# Altium footprint library Connectors.PcbLib: 2 footprints
Each footprint in its own frame and in the unit in brackets; x right, y up, seen from the top. Pads: shape width x height; smd on the part's side, far side on the other; paste and mask are expansions set on the pad; w line width, h text height; cw(c..) or ccw(c..) is an arc to the next point about the centre after c.
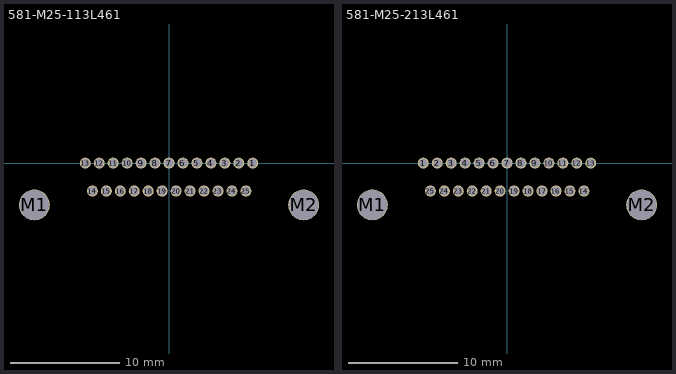
[diagram p0: the footprints below, top view; thin cyan lines are the x and y axes]

## 581-M25-113L461 [mm] "CONN MICRO-D MALE 25P RA"
pads (27):
  round 1 hole 0.8: 1(7.62,0) 2(6.35,0) 3(5.08,0) 4(3.81,0) 5(2.54,0) 6(1.27,0) 7(0,0) 8(-1.27,0) 9(-2.54,0) 10(-3.81,0) 11(-5.08,0) 12(-6.35,0) 13(-7.62,0) 14(-6.973,-2.54) 15(-5.703,-2.54) 16(-4.433,-2.54) 17(-3.163,-2.54) 18(-1.893,-2.54) 19(-0.623,-2.54) 20(0.647,-2.54) 21(1.917,-2.54) 22(3.187,-2.54) 23(4.457,-2.54) 24(5.727,-2.54) 25(6.997,-2.54)
  round 2.8 hole 2.69: M1(-12.25,-3.81) M2(12.25,-3.81)
3D body "581-M25-113L461.STEP": height 7.9, standoff -2.7, extent -15.07,-14.188 15.03,0.882

## 581-M25-213L461 [mm] "CONN MICRO-D FEMALE 25P RA"
pads (27):
  round 1 hole 0.8: 1(-7.62,0) 2(-6.35,0) 3(-5.08,0) 4(-3.81,0) 5(-2.54,0) 6(-1.27,0) 7(0,0) 8(1.27,0) 9(2.54,0) 10(3.81,0) 11(5.08,0) 12(6.35,0) 13(7.62,0) 14(6.997,-2.54) 15(5.727,-2.54) 16(4.457,-2.54) 17(3.187,-2.54) 18(1.917,-2.54) 19(0.647,-2.54) 20(-0.623,-2.54) 21(-1.893,-2.54) 22(-3.163,-2.54) 23(-4.433,-2.54) 24(-5.703,-2.54) 25(-6.973,-2.54)
  round 2.8 hole 2.69: M1(-12.25,-3.81) M2(12.25,-3.81)
3D body "581-M25-213L461.STEP": height 7.9, standoff -2.7, extent -15.07,-14.668 15.03,0.882